# Altium integrated library Linear Technology Power Management System Supervisor, Monitor and Control.IntLib: 1611 symbols (part 17 of 100)
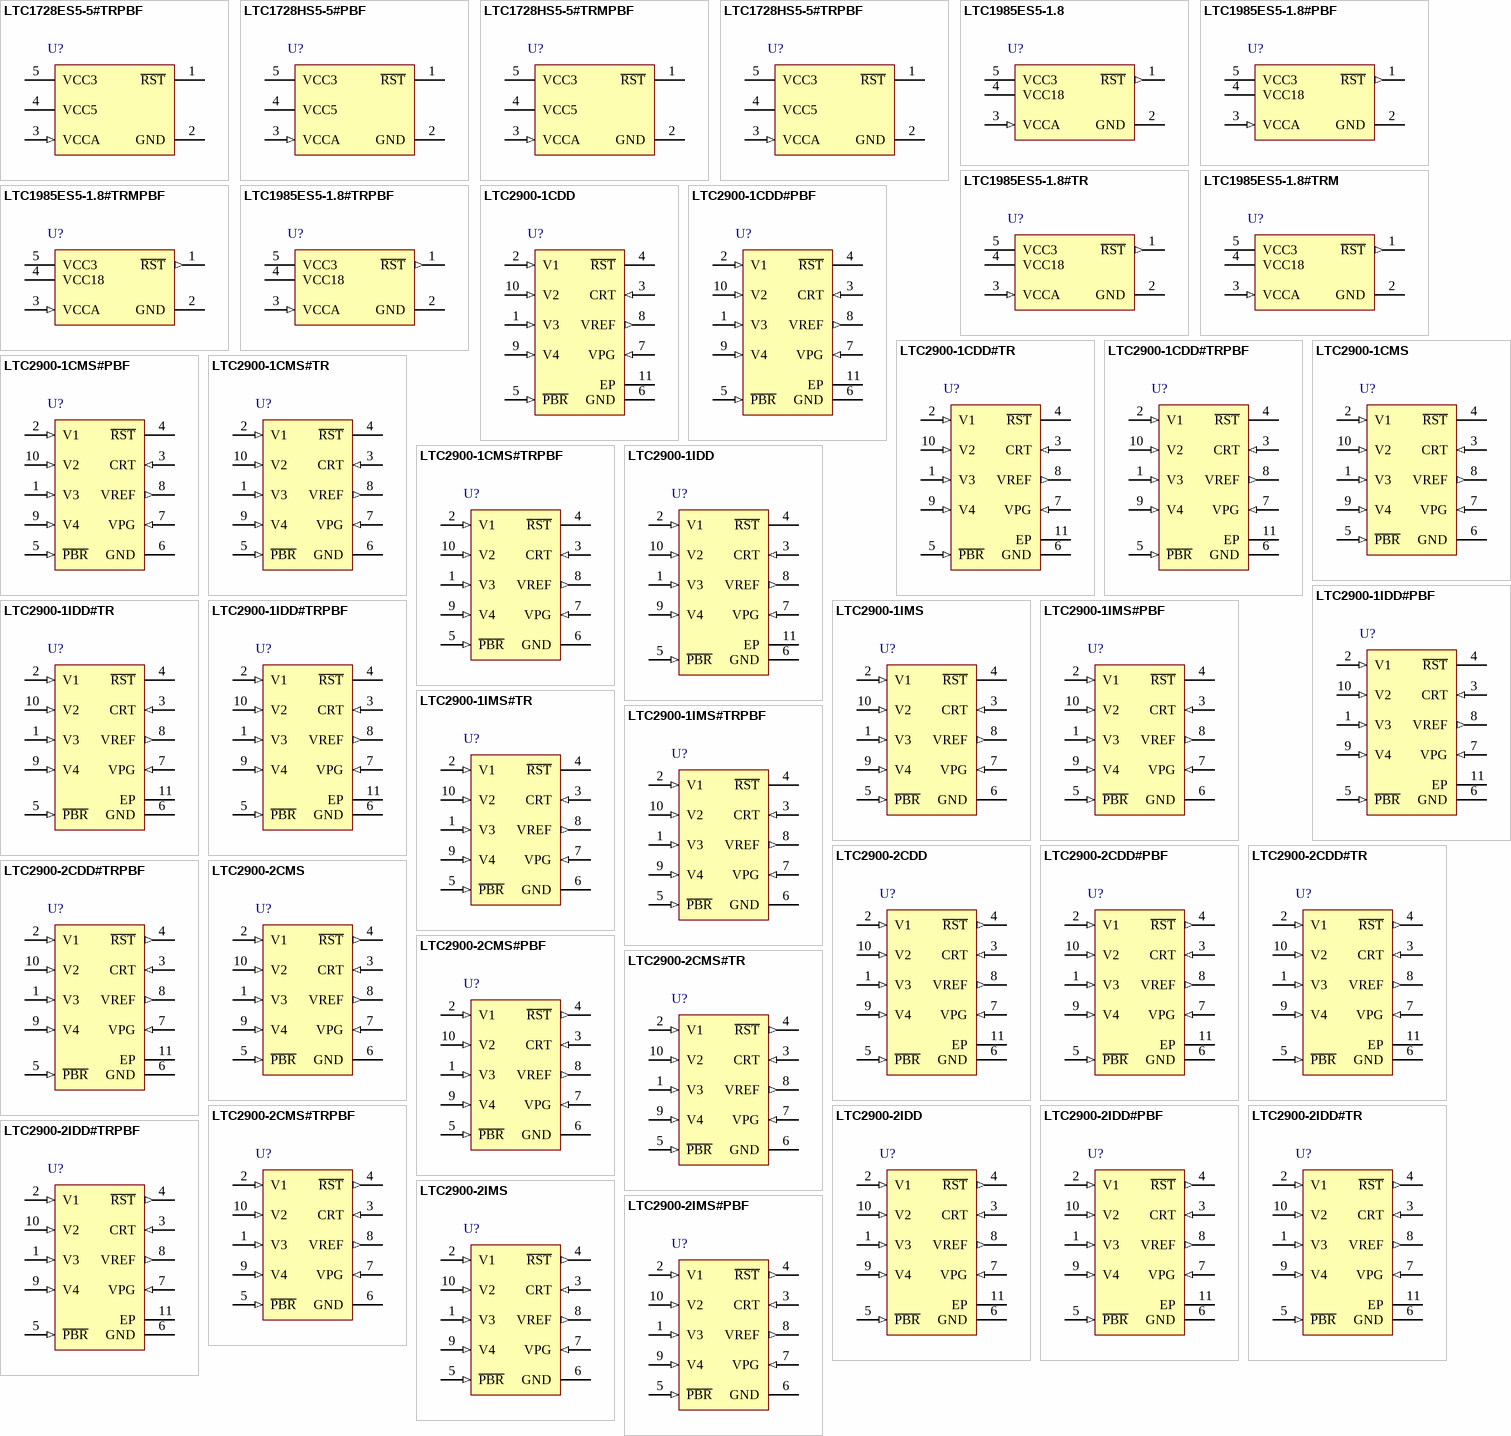
[diagram p61: symbols LTC1728ES5-5#TRPBF to LTC2900-2IMS#PBF]

## LTC2900-2IMS#PBF
designator U?
Programmable Quad Supply Monitor with Adjustable Reset Timer, 10-pin SOP (MS-10), -40 to 85 degC, Pb-Free; Manufacturer: Linear Technology; PartNumber: LTC2900-2IMS#PBF; Number of Supplies(#): 4; PackageVersion: Rev. E, 06/2010; PackageReference: MS-10; PackageDescription: 10-Pin Plastic MSOP, Body 3 x 3 mm, Pitch 0.5 mm; Supplier 1: Digi-Key; Supplier Part Number 1: LTC2900-2IMS#PBF-ND; Supplier 2: Farnell; Supplier Part Number 2: 2295400; Supplier 3: Newark; Supplier Part Number 3: 56M6569; RoHS: TRUE; Mounting Technology: Surface Mount; ComponentLink1Description: Manufacturer URL; ComponentLink1URL: http://www.linear.com/; ComponentLink2Description: Datasheet; ComponentLink2URL: http://cds.linear.com/docs/en/datasheet/2900f.pdf; ComponentLink3Description: Package Specification; ComponentLink3URL: http://cds.linear.com/docs/en/packaging/05081661_F_MS.pdf
footprint LT-MS-10_N (SOP, 10-Leads, Body 3.1x3.1mm, Pitch 0.5mm, IPC Medium Density)
footprint LT-MS-10_L (SOP, 10-Leads, Body 3.1x3.1mm, Pitch 0.5mm, IPC High Density)
footprint LT-MS-10_M (SOP, 10-Leads, Body 3.1x3.1mm, Pitch 0.5mm, IPC Low Density)
pins: 1 V3 (in) "Voltage Input 3. Select from 2.5V, 1.8V, 1.5V or ADJ. See Table 1 for details.", 2 V1 (in) "Voltage Input 1. Select from 5V or 3.3V. See Table 1 for details. The greater of (V1, V2) is also VCC for the device. Bypass this pin to ground with a 0.1uF (or greater) capacitor.", 3 CRT (in) "Reset Delay Time Programming Pin. Attach an external capacitor (CRT) to GND to set a reset delay time of 4.6ms/nF. Leaving the pin open generates a minimum delay of approximately 50us. A 47nF capacitor will generate a 216ms (See Datasheet)", 4 ~{RST} (out) "Reset Logic Output. Active low with active pull-up to V2 (LTC2900-2). Pulls low when any voltage input is below the reset threshold and held low for the programmed delay time after all voltage inputs are above threshold.", 5 ~{PBR} (in) "Manual Reset Pin. Attach a push-button switch between this pin and ground. A logic low on this pin will pull R\S\T\ low. When the P\B\R\ pin returns high, R\S\T\ will return high after the programmed reset delay assuming all (See Datasheet)", 6 GND (power) "Ground.", 7 VPG (in) "Voltage Threshold Combination Select Input. Connect to an external 1% resistive divider between VREF and GND to select 1 of 16 combinations of preset and/or +/-adjustable voltage thresholds (see Table 1). Do not add (See Datasheet)", 8 VREF (out) "Buffered Reference Voltage. A 1.210V nominal reference used for the programming voltage (VPG) and for the offset of negative adjustable applications. The buffered reference can source and sink up to 1mA. The reference can (See Datasheet)", 9 V4 (in) "Voltage Input 4. Select from 1.8V, 1.5V, ADJ or -ADJ. See Table 1 for details.", 10 V2 (in) "Voltage Input 2. Select from 3.3V, 3V or 2.5V. See Table 1 for details. The greater of (V1, V2) is also VCC for the device. Bypass this pin to ground with a 0.1uF (or greater) capacitor.R\S\T\ is actively pulled up to V2 in (See Datasheet)"

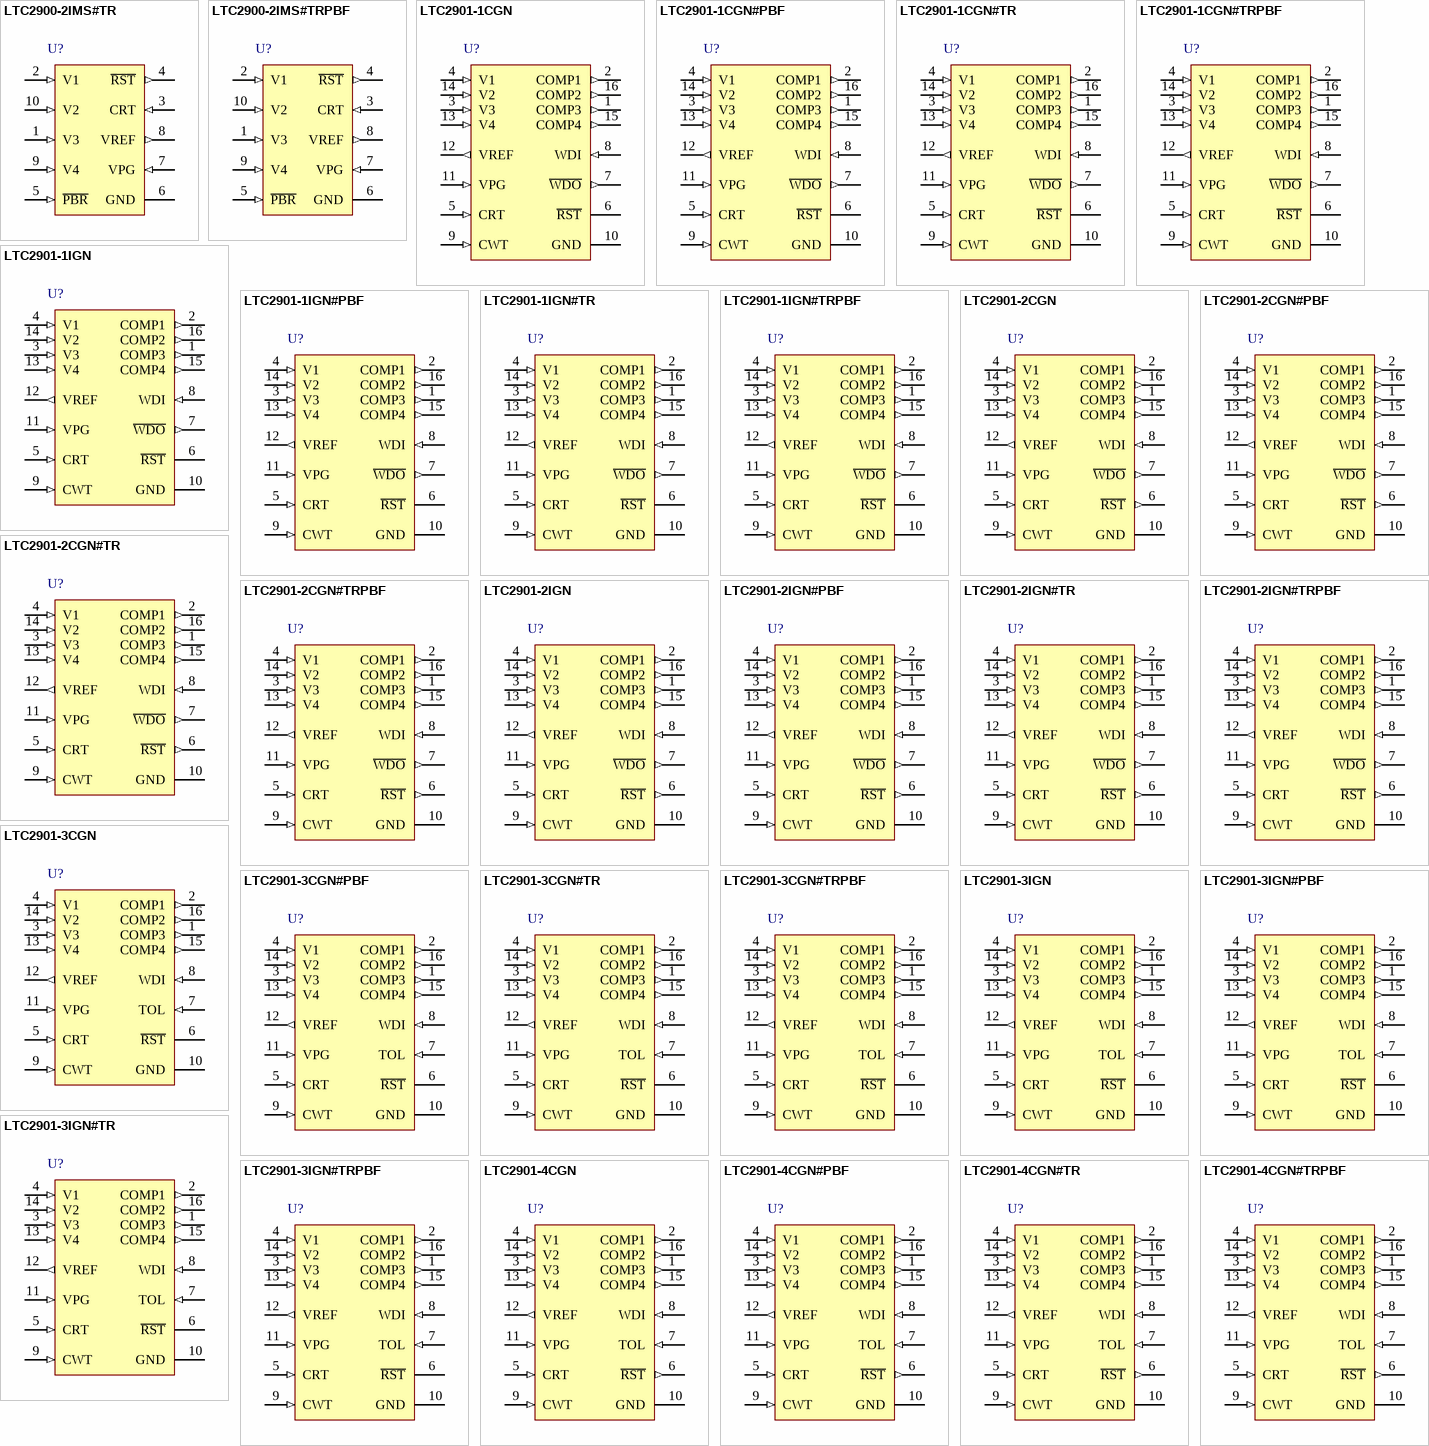
[diagram p9: symbols LTC2900-2IMS#TR to LTC2901-4CGN#TRPBF]

## LTC2900-2IMS#TR
designator U?
Programmable Quad Supply Monitor with Adjustable Reset Timer, 10-pin SOP (MS-10), -40 to 85 degC, Tape and Reel; Manufacturer: Linear Technology; PartNumber: LTC2900-2IMS#TR; Number of Supplies(#): 4; PackageVersion: Rev. E, 06/2010; PackageReference: MS-10; PackageDescription: 10-Pin Plastic MSOP, Body 3 x 3 mm, Pitch 0.5 mm; Supplier 1: Digi-Key; Supplier Part Number 1: LTC2900-2IMS#TR-ND; Packing: Tape and Reel; RoHS: FALSE; Mounting Technology: Surface Mount; ComponentLink1Description: Manufacturer URL; ComponentLink1URL: http://www.linear.com/; ComponentLink2Description: Datasheet; ComponentLink2URL: http://cds.linear.com/docs/en/datasheet/2900f.pdf; ComponentLink3Description: Package Specification; ComponentLink3URL: http://cds.linear.com/docs/en/packaging/05081661_F_MS.pdf
footprint LT-MS-10_N (SOP, 10-Leads, Body 3.1x3.1mm, Pitch 0.5mm, IPC Medium Density)
footprint LT-MS-10_L (SOP, 10-Leads, Body 3.1x3.1mm, Pitch 0.5mm, IPC High Density)
footprint LT-MS-10_M (SOP, 10-Leads, Body 3.1x3.1mm, Pitch 0.5mm, IPC Low Density)
pins: 1 V3 (in) "Voltage Input 3. Select from 2.5V, 1.8V, 1.5V or ADJ. See Table 1 for details.", 2 V1 (in) "Voltage Input 1. Select from 5V or 3.3V. See Table 1 for details. The greater of (V1, V2) is also VCC for the device. Bypass this pin to ground with a 0.1uF (or greater) capacitor.", 3 CRT (in) "Reset Delay Time Programming Pin. Attach an external capacitor (CRT) to GND to set a reset delay time of 4.6ms/nF. Leaving the pin open generates a minimum delay of approximately 50us. A 47nF capacitor will generate a 216ms (See Datasheet)", 4 ~{RST} (out) "Reset Logic Output. Active low with active pull-up to V2 (LTC2900-2). Pulls low when any voltage input is below the reset threshold and held low for the programmed delay time after all voltage inputs are above threshold.", 5 ~{PBR} (in) "Manual Reset Pin. Attach a push-button switch between this pin and ground. A logic low on this pin will pull R\S\T\ low. When the P\B\R\ pin returns high, R\S\T\ will return high after the programmed reset delay assuming all (See Datasheet)", 6 GND (power) "Ground.", 7 VPG (in) "Voltage Threshold Combination Select Input. Connect to an external 1% resistive divider between VREF and GND to select 1 of 16 combinations of preset and/or +/-adjustable voltage thresholds (see Table 1). Do not add (See Datasheet)", 8 VREF (out) "Buffered Reference Voltage. A 1.210V nominal reference used for the programming voltage (VPG) and for the offset of negative adjustable applications. The buffered reference can source and sink up to 1mA. The reference can (See Datasheet)", 9 V4 (in) "Voltage Input 4. Select from 1.8V, 1.5V, ADJ or -ADJ. See Table 1 for details.", 10 V2 (in) "Voltage Input 2. Select from 3.3V, 3V or 2.5V. See Table 1 for details. The greater of (V1, V2) is also VCC for the device. Bypass this pin to ground with a 0.1uF (or greater) capacitor.R\S\T\ is actively pulled up to V2 in (See Datasheet)"

## LTC2900-2IMS#TRPBF
designator U?
Programmable Quad Supply Monitor with Adjustable Reset Timer, 10-pin SOP (MS-10), -40 to 85 degC, Pb-Free, Tape and Reel; Manufacturer: Linear Technology; PartNumber: LTC2900-2IMS#TRPBF; Number of Supplies(#): 4; PackageVersion: Rev. E, 06/2010; PackageReference: MS-10; PackageDescription: 10-Pin Plastic MSOP, Body 3 x 3 mm, Pitch 0.5 mm; Supplier 1: Digi-Key; Supplier Part Number 1: LTC2900-2IMS#TRPBF-ND; Supplier 2: Newark; Supplier Part Number 2: 56M6571; Packing: Tape and Reel; RoHS: TRUE; Mounting Technology: Surface Mount; ComponentLink1Description: Manufacturer URL; ComponentLink1URL: http://www.linear.com/; ComponentLink2Description: Datasheet; ComponentLink2URL: http://cds.linear.com/docs/en/datasheet/2900f.pdf; ComponentLink3Description: Package Specification; ComponentLink3URL: http://cds.linear.com/docs/en/packaging/05081661_F_MS.pdf
footprint LT-MS-10_N (SOP, 10-Leads, Body 3.1x3.1mm, Pitch 0.5mm, IPC Medium Density)
footprint LT-MS-10_L (SOP, 10-Leads, Body 3.1x3.1mm, Pitch 0.5mm, IPC High Density)
footprint LT-MS-10_M (SOP, 10-Leads, Body 3.1x3.1mm, Pitch 0.5mm, IPC Low Density)
pins: 1 V3 (in) "Voltage Input 3. Select from 2.5V, 1.8V, 1.5V or ADJ. See Table 1 for details.", 2 V1 (in) "Voltage Input 1. Select from 5V or 3.3V. See Table 1 for details. The greater of (V1, V2) is also VCC for the device. Bypass this pin to ground with a 0.1uF (or greater) capacitor.", 3 CRT (in) "Reset Delay Time Programming Pin. Attach an external capacitor (CRT) to GND to set a reset delay time of 4.6ms/nF. Leaving the pin open generates a minimum delay of approximately 50us. A 47nF capacitor will generate a 216ms (See Datasheet)", 4 ~{RST} (out) "Reset Logic Output. Active low with active pull-up to V2 (LTC2900-2). Pulls low when any voltage input is below the reset threshold and held low for the programmed delay time after all voltage inputs are above threshold.", 5 ~{PBR} (in) "Manual Reset Pin. Attach a push-button switch between this pin and ground. A logic low on this pin will pull R\S\T\ low. When the P\B\R\ pin returns high, R\S\T\ will return high after the programmed reset delay assuming all (See Datasheet)", 6 GND (power) "Ground.", 7 VPG (in) "Voltage Threshold Combination Select Input. Connect to an external 1% resistive divider between VREF and GND to select 1 of 16 combinations of preset and/or +/-adjustable voltage thresholds (see Table 1). Do not add (See Datasheet)", 8 VREF (out) "Buffered Reference Voltage. A 1.210V nominal reference used for the programming voltage (VPG) and for the offset of negative adjustable applications. The buffered reference can source and sink up to 1mA. The reference can (See Datasheet)", 9 V4 (in) "Voltage Input 4. Select from 1.8V, 1.5V, ADJ or -ADJ. See Table 1 for details.", 10 V2 (in) "Voltage Input 2. Select from 3.3V, 3V or 2.5V. See Table 1 for details. The greater of (V1, V2) is also VCC for the device. Bypass this pin to ground with a 0.1uF (or greater) capacitor.R\S\T\ is actively pulled up to V2 in (See Datasheet)"

## LTC2901-1CGN
designator U?
Programmable Quad Supply Monitor with Adjustable Reset and Watchdog Timers, 16-pin SOP (GN-16), 0 to 70 degC; Manufacturer: Linear Technology; PartNumber: LTC2901-1CGN; Number of Supplies(#): 4; DatasheetVersion: Rev. B; PackageVersion: Rev. B, 03/2012; PackageReference: GN-16; PackageDescription: 16-Pin Plastic SSOP, Body 4.9 x 3.9 mm, Pitch 0.635 mm; Supplier 1: Digi-Key; Supplier Part Number 1: LTC2901-1CGN-ND; RoHS: FALSE; Mounting Technology: Surface Mount; ComponentLink1Description: Manufacturer URL; ComponentLink1URL: http://www.linear.com/; ComponentLink2Description: Datasheet; ComponentLink2URL: http://cds.linear.com/docs/en/datasheet/2901fb.pdf; ComponentLink3Description: Package Specification; ComponentLink3URL: http://cds.linear.com/docs/en/packaging/05081641_B_GN16.pdf
footprint LT-GN-16_N (SOP, 16-Leads, Body 5x4mm, Pitch 0.635mm, IPC Medium Density)
footprint LT-GN-16_L (SOP, 16-Leads, Body 5x4mm, Pitch 0.635mm, IPC High Density)
footprint LT-GN-16_M (SOP, 16-Leads, Body 5x4mm, Pitch 0.635mm, IPC Low Density)
pins: 1 COMP3 (out) "Comparator Output 3. Nondelayed, active high logic output with weak pull-up to V2. Pulls high when V3 is above reset threshold. May be pulled greater than V2 using external pull-up.", 2 COMP1 (out) "Comparator Output 1. Nondelayed, active high logic output with weak pull-up to V2. Pulls high when V1 is above reset threshold. May be pulled greater than V2 using external pull-up.", 3 V3 (in) "Voltage Input 3. Select from 2.5V, 1.8V, 1.5V or ADJ. See Table 1 for details.", 4 V1 (in) "Voltage Input 1. Select from 5V or 3.3V. See Table 1 for details. The greater of (V1, V2) is also VCC for the device. Bypass this pin to ground with a 0.1uF (or greater) capacitor.", 5 CRT (in) "Reset Delay Time Programming Pin. Attach an external capacitor (CRT) to GND to set a reset delay time of 4.6ms/nF. Leaving the pin open generates a minimum delay of approximately 50us. A 47nF capacitor will generate a 216ms (See Datasheet)", 6 ~{RST} (oc) "Reset Logic Output. Active low with weak pull-up to V2 (LTC2901-1/LTC2901-3) or active pull-up to V2 (LTC2901-2/LTC2901-4). Pulls low when any voltage input is below the reset threshold and held low for the programmed delay (See Datasheet)", 7 ~{WDO} (out) "LTC2901-1/LTC2901-2 Watchdog Output. Active low logic output with weak pull-up to V2. May be pulled greater than V2 using external pull-up. The watchdog output pulls low if the watchdog timer is allowed to time out and (See Datasheet)", 8 WDI (in) "Watchdog Input. A logic input whose rising or falling edge must occur on this pin (while R\S\T\ is high) within the selected watchdog time-out period, prohibiting a high-to-low transition on the W\D\O\ pin (LTC2901-1/ (See Datasheet)", 9 CWT (in) "Watchdog Time-Out Programming Pin. Attach a capacitor (CWT) between CWT and GND to set a watchdog time-out period of 20ms/nF. Leaving the pin open generates a minimum time-out of approximately 200us. A 47nF capacitor will (See Datasheet)", 10 GND (power) "Ground.", 11 VPG (in) "Voltage Threshold Combination Select Input. Connect to an external 1% resistive divider between VREF and GND to select 1 of 16 combinations of preset and/ or +/-adjustable voltage thresholds (see Table 1). Do not add (See Datasheet)", 12 VREF (out) "Buffered Reference Voltage. A 1.210V nominal reference used for programming voltage (VPG) and for the offset of negative adjustable applications. The buffered reference can source and sink up to 1mA. The reference can drive (See Datasheet)", 13 V4 (in) "Voltage Input 4. Select from 1.8V, 1.5V, ADJ or - ADJ. See Table 1 for details.", 14 V2 (in) "Voltage Input 2. Select from 3.3V, 3V or 2.5V. See Table 1 for details. The greater of (V1, V2) is also VCC for device. Bypass this pin to ground with a 0.1uF (or greater) capacitor. All logic outputs (COMP1, COMP2, COMP3, (See Datasheet)", 15 COMP4 (out) "Comparator Output 4. Nondelayed, active high logic output with weak pull-up to V2. Pulls high when V4 is above reset threshold. May be pulled greater than V2 using external pull-up.", 16 COMP2 (out) "Comparator Output 2. Nondelayed, active high logic output with weak pull-up to V2. Pulls high when V2 is above reset threshold. May be pulled greater than V2 using external pull-up."

## LTC2901-1CGN#PBF
designator U?
Programmable Quad Supply Monitor with Adjustable Reset and Watchdog Timers, 16-pin SOP (GN-16), 0 to 70 degC, Pb-Free; Manufacturer: Linear Technology; PartNumber: LTC2901-1CGN#PBF; Number of Supplies(#): 4; DatasheetVersion: Rev. B; PackageVersion: Rev. B, 03/2012; PackageReference: GN-16; PackageDescription: 16-Pin Plastic SSOP, Body 4.9 x 3.9 mm, Pitch 0.635 mm; Supplier 1: Digi-Key; Supplier Part Number 1: LTC2901-1CGN#PBF-ND; Supplier 2: Farnell; Supplier Part Number 2: 2295401; Supplier 3: Newark; Supplier Part Number 3: 56M6572; RoHS: TRUE; Mounting Technology: Surface Mount; ComponentLink1Description: Manufacturer URL; ComponentLink1URL: http://www.linear.com/; ComponentLink2Description: Datasheet; ComponentLink2URL: http://cds.linear.com/docs/en/datasheet/2901fb.pdf; ComponentLink3Description: Package Specification; ComponentLink3URL: http://cds.linear.com/docs/en/packaging/05081641_B_GN16.pdf
footprint LT-GN-16_N (SOP, 16-Leads, Body 5x4mm, Pitch 0.635mm, IPC Medium Density)
footprint LT-GN-16_L (SOP, 16-Leads, Body 5x4mm, Pitch 0.635mm, IPC High Density)
footprint LT-GN-16_M (SOP, 16-Leads, Body 5x4mm, Pitch 0.635mm, IPC Low Density)
pins: 1 COMP3 (out) "Comparator Output 3. Nondelayed, active high logic output with weak pull-up to V2. Pulls high when V3 is above reset threshold. May be pulled greater than V2 using external pull-up.", 2 COMP1 (out) "Comparator Output 1. Nondelayed, active high logic output with weak pull-up to V2. Pulls high when V1 is above reset threshold. May be pulled greater than V2 using external pull-up.", 3 V3 (in) "Voltage Input 3. Select from 2.5V, 1.8V, 1.5V or ADJ. See Table 1 for details.", 4 V1 (in) "Voltage Input 1. Select from 5V or 3.3V. See Table 1 for details. The greater of (V1, V2) is also VCC for the device. Bypass this pin to ground with a 0.1uF (or greater) capacitor.", 5 CRT (in) "Reset Delay Time Programming Pin. Attach an external capacitor (CRT) to GND to set a reset delay time of 4.6ms/nF. Leaving the pin open generates a minimum delay of approximately 50us. A 47nF capacitor will generate a 216ms (See Datasheet)", 6 ~{RST} (oc) "Reset Logic Output. Active low with weak pull-up to V2 (LTC2901-1/LTC2901-3) or active pull-up to V2 (LTC2901-2/LTC2901-4). Pulls low when any voltage input is below the reset threshold and held low for the programmed delay (See Datasheet)", 7 ~{WDO} (out) "LTC2901-1/LTC2901-2 Watchdog Output. Active low logic output with weak pull-up to V2. May be pulled greater than V2 using external pull-up. The watchdog output pulls low if the watchdog timer is allowed to time out and (See Datasheet)", 8 WDI (in) "Watchdog Input. A logic input whose rising or falling edge must occur on this pin (while R\S\T\ is high) within the selected watchdog time-out period, prohibiting a high-to-low transition on the W\D\O\ pin (LTC2901-1/ (See Datasheet)", 9 CWT (in) "Watchdog Time-Out Programming Pin. Attach a capacitor (CWT) between CWT and GND to set a watchdog time-out period of 20ms/nF. Leaving the pin open generates a minimum time-out of approximately 200us. A 47nF capacitor will (See Datasheet)", 10 GND (power) "Ground.", 11 VPG (in) "Voltage Threshold Combination Select Input. Connect to an external 1% resistive divider between VREF and GND to select 1 of 16 combinations of preset and/ or +/-adjustable voltage thresholds (see Table 1). Do not add (See Datasheet)", 12 VREF (out) "Buffered Reference Voltage. A 1.210V nominal reference used for programming voltage (VPG) and for the offset of negative adjustable applications. The buffered reference can source and sink up to 1mA. The reference can drive (See Datasheet)", 13 V4 (in) "Voltage Input 4. Select from 1.8V, 1.5V, ADJ or - ADJ. See Table 1 for details.", 14 V2 (in) "Voltage Input 2. Select from 3.3V, 3V or 2.5V. See Table 1 for details. The greater of (V1, V2) is also VCC for device. Bypass this pin to ground with a 0.1uF (or greater) capacitor. All logic outputs (COMP1, COMP2, COMP3, (See Datasheet)", 15 COMP4 (out) "Comparator Output 4. Nondelayed, active high logic output with weak pull-up to V2. Pulls high when V4 is above reset threshold. May be pulled greater than V2 using external pull-up.", 16 COMP2 (out) "Comparator Output 2. Nondelayed, active high logic output with weak pull-up to V2. Pulls high when V2 is above reset threshold. May be pulled greater than V2 using external pull-up."

## LTC2901-1CGN#TR
designator U?
Programmable Quad Supply Monitor with Adjustable Reset and Watchdog Timers, 16-pin SOP (GN-16), 0 to 70 degC, Tape and Reel; Manufacturer: Linear Technology; PartNumber: LTC2901-1CGN#TR; Number of Supplies(#): 4; DatasheetVersion: Rev. B; PackageVersion: Rev. B, 03/2012; PackageReference: GN-16; PackageDescription: 16-Pin Plastic SSOP, Body 4.9 x 3.9 mm, Pitch 0.635 mm; Supplier 1: Digi-Key; Supplier Part Number 1: LTC2901-1CGN#TR-ND; Packing: Tape and Reel; RoHS: FALSE; Mounting Technology: Surface Mount; ComponentLink1Description: Manufacturer URL; ComponentLink1URL: http://www.linear.com/; ComponentLink2Description: Datasheet; ComponentLink2URL: http://cds.linear.com/docs/en/datasheet/2901fb.pdf; ComponentLink3Description: Package Specification; ComponentLink3URL: http://cds.linear.com/docs/en/packaging/05081641_B_GN16.pdf
footprint LT-GN-16_N (SOP, 16-Leads, Body 5x4mm, Pitch 0.635mm, IPC Medium Density)
footprint LT-GN-16_L (SOP, 16-Leads, Body 5x4mm, Pitch 0.635mm, IPC High Density)
footprint LT-GN-16_M (SOP, 16-Leads, Body 5x4mm, Pitch 0.635mm, IPC Low Density)
pins: 1 COMP3 (out) "Comparator Output 3. Nondelayed, active high logic output with weak pull-up to V2. Pulls high when V3 is above reset threshold. May be pulled greater than V2 using external pull-up.", 2 COMP1 (out) "Comparator Output 1. Nondelayed, active high logic output with weak pull-up to V2. Pulls high when V1 is above reset threshold. May be pulled greater than V2 using external pull-up.", 3 V3 (in) "Voltage Input 3. Select from 2.5V, 1.8V, 1.5V or ADJ. See Table 1 for details.", 4 V1 (in) "Voltage Input 1. Select from 5V or 3.3V. See Table 1 for details. The greater of (V1, V2) is also VCC for the device. Bypass this pin to ground with a 0.1uF (or greater) capacitor.", 5 CRT (in) "Reset Delay Time Programming Pin. Attach an external capacitor (CRT) to GND to set a reset delay time of 4.6ms/nF. Leaving the pin open generates a minimum delay of approximately 50us. A 47nF capacitor will generate a 216ms (See Datasheet)", 6 ~{RST} (oc) "Reset Logic Output. Active low with weak pull-up to V2 (LTC2901-1/LTC2901-3) or active pull-up to V2 (LTC2901-2/LTC2901-4). Pulls low when any voltage input is below the reset threshold and held low for the programmed delay (See Datasheet)", 7 ~{WDO} (out) "LTC2901-1/LTC2901-2 Watchdog Output. Active low logic output with weak pull-up to V2. May be pulled greater than V2 using external pull-up. The watchdog output pulls low if the watchdog timer is allowed to time out and (See Datasheet)", 8 WDI (in) "Watchdog Input. A logic input whose rising or falling edge must occur on this pin (while R\S\T\ is high) within the selected watchdog time-out period, prohibiting a high-to-low transition on the W\D\O\ pin (LTC2901-1/ (See Datasheet)", 9 CWT (in) "Watchdog Time-Out Programming Pin. Attach a capacitor (CWT) between CWT and GND to set a watchdog time-out period of 20ms/nF. Leaving the pin open generates a minimum time-out of approximately 200us. A 47nF capacitor will (See Datasheet)", 10 GND (power) "Ground.", 11 VPG (in) "Voltage Threshold Combination Select Input. Connect to an external 1% resistive divider between VREF and GND to select 1 of 16 combinations of preset and/ or +/-adjustable voltage thresholds (see Table 1). Do not add (See Datasheet)", 12 VREF (out) "Buffered Reference Voltage. A 1.210V nominal reference used for programming voltage (VPG) and for the offset of negative adjustable applications. The buffered reference can source and sink up to 1mA. The reference can drive (See Datasheet)", 13 V4 (in) "Voltage Input 4. Select from 1.8V, 1.5V, ADJ or - ADJ. See Table 1 for details.", 14 V2 (in) "Voltage Input 2. Select from 3.3V, 3V or 2.5V. See Table 1 for details. The greater of (V1, V2) is also VCC for device. Bypass this pin to ground with a 0.1uF (or greater) capacitor. All logic outputs (COMP1, COMP2, COMP3, (See Datasheet)", 15 COMP4 (out) "Comparator Output 4. Nondelayed, active high logic output with weak pull-up to V2. Pulls high when V4 is above reset threshold. May be pulled greater than V2 using external pull-up.", 16 COMP2 (out) "Comparator Output 2. Nondelayed, active high logic output with weak pull-up to V2. Pulls high when V2 is above reset threshold. May be pulled greater than V2 using external pull-up."

## LTC2901-1CGN#TRPBF
designator U?
Programmable Quad Supply Monitor with Adjustable Reset and Watchdog Timers, 16-pin SOP (GN-16), 0 to 70 degC, Pb-Free, Tape and Reel; Manufacturer: Linear Technology; PartNumber: LTC2901-1CGN#TRPBF; Number of Supplies(#): 4; DatasheetVersion: Rev. B; PackageVersion: Rev. B, 03/2012; PackageReference: GN-16; PackageDescription: 16-Pin Plastic SSOP, Body 4.9 x 3.9 mm, Pitch 0.635 mm; Supplier 1: Digi-Key; Supplier Part Number 1: LTC2901-1CGN#TRPBF-ND; Supplier 2: Newark; Supplier Part Number 2: 56M6574; Packing: Tape and Reel; RoHS: TRUE; Mounting Technology: Surface Mount; ComponentLink1Description: Manufacturer URL; ComponentLink1URL: http://www.linear.com/; ComponentLink2Description: Datasheet; ComponentLink2URL: http://cds.linear.com/docs/en/datasheet/2901fb.pdf; ComponentLink3Description: Package Specification; ComponentLink3URL: http://cds.linear.com/docs/en/packaging/05081641_B_GN16.pdf
footprint LT-GN-16_N (SOP, 16-Leads, Body 5x4mm, Pitch 0.635mm, IPC Medium Density)
footprint LT-GN-16_L (SOP, 16-Leads, Body 5x4mm, Pitch 0.635mm, IPC High Density)
footprint LT-GN-16_M (SOP, 16-Leads, Body 5x4mm, Pitch 0.635mm, IPC Low Density)
pins: 1 COMP3 (out) "Comparator Output 3. Nondelayed, active high logic output with weak pull-up to V2. Pulls high when V3 is above reset threshold. May be pulled greater than V2 using external pull-up.", 2 COMP1 (out) "Comparator Output 1. Nondelayed, active high logic output with weak pull-up to V2. Pulls high when V1 is above reset threshold. May be pulled greater than V2 using external pull-up.", 3 V3 (in) "Voltage Input 3. Select from 2.5V, 1.8V, 1.5V or ADJ. See Table 1 for details.", 4 V1 (in) "Voltage Input 1. Select from 5V or 3.3V. See Table 1 for details. The greater of (V1, V2) is also VCC for the device. Bypass this pin to ground with a 0.1uF (or greater) capacitor.", 5 CRT (in) "Reset Delay Time Programming Pin. Attach an external capacitor (CRT) to GND to set a reset delay time of 4.6ms/nF. Leaving the pin open generates a minimum delay of approximately 50us. A 47nF capacitor will generate a 216ms (See Datasheet)", 6 ~{RST} (oc) "Reset Logic Output. Active low with weak pull-up to V2 (LTC2901-1/LTC2901-3) or active pull-up to V2 (LTC2901-2/LTC2901-4). Pulls low when any voltage input is below the reset threshold and held low for the programmed delay (See Datasheet)", 7 ~{WDO} (out) "LTC2901-1/LTC2901-2 Watchdog Output. Active low logic output with weak pull-up to V2. May be pulled greater than V2 using external pull-up. The watchdog output pulls low if the watchdog timer is allowed to time out and (See Datasheet)", 8 WDI (in) "Watchdog Input. A logic input whose rising or falling edge must occur on this pin (while R\S\T\ is high) within the selected watchdog time-out period, prohibiting a high-to-low transition on the W\D\O\ pin (LTC2901-1/ (See Datasheet)", 9 CWT (in) "Watchdog Time-Out Programming Pin. Attach a capacitor (CWT) between CWT and GND to set a watchdog time-out period of 20ms/nF. Leaving the pin open generates a minimum time-out of approximately 200us. A 47nF capacitor will (See Datasheet)", 10 GND (power) "Ground.", 11 VPG (in) "Voltage Threshold Combination Select Input. Connect to an external 1% resistive divider between VREF and GND to select 1 of 16 combinations of preset and/ or +/-adjustable voltage thresholds (see Table 1). Do not add (See Datasheet)", 12 VREF (out) "Buffered Reference Voltage. A 1.210V nominal reference used for programming voltage (VPG) and for the offset of negative adjustable applications. The buffered reference can source and sink up to 1mA. The reference can drive (See Datasheet)", 13 V4 (in) "Voltage Input 4. Select from 1.8V, 1.5V, ADJ or - ADJ. See Table 1 for details.", 14 V2 (in) "Voltage Input 2. Select from 3.3V, 3V or 2.5V. See Table 1 for details. The greater of (V1, V2) is also VCC for device. Bypass this pin to ground with a 0.1uF (or greater) capacitor. All logic outputs (COMP1, COMP2, COMP3, (See Datasheet)", 15 COMP4 (out) "Comparator Output 4. Nondelayed, active high logic output with weak pull-up to V2. Pulls high when V4 is above reset threshold. May be pulled greater than V2 using external pull-up.", 16 COMP2 (out) "Comparator Output 2. Nondelayed, active high logic output with weak pull-up to V2. Pulls high when V2 is above reset threshold. May be pulled greater than V2 using external pull-up."

## LTC2901-1IGN
designator U?
Programmable Quad Supply Monitor with Adjustable Reset and Watchdog Timers, 16-pin SOP (GN-16), -40 to 85 degC; Manufacturer: Linear Technology; PartNumber: LTC2901-1IGN; Number of Supplies(#): 4; DatasheetVersion: Rev. B; PackageVersion: Rev. B, 03/2012; PackageReference: GN-16; PackageDescription: 16-Pin Plastic SSOP, Body 4.9 x 3.9 mm, Pitch 0.635 mm; Supplier 1: Digi-Key; Supplier Part Number 1: LTC2901-1IGN-ND; RoHS: FALSE; Mounting Technology: Surface Mount; ComponentLink1Description: Manufacturer URL; ComponentLink1URL: http://www.linear.com/; ComponentLink2Description: Datasheet; ComponentLink2URL: http://cds.linear.com/docs/en/datasheet/2901fb.pdf; ComponentLink3Description: Package Specification; ComponentLink3URL: http://cds.linear.com/docs/en/packaging/05081641_B_GN16.pdf
footprint LT-GN-16_N (SOP, 16-Leads, Body 5x4mm, Pitch 0.635mm, IPC Medium Density)
footprint LT-GN-16_L (SOP, 16-Leads, Body 5x4mm, Pitch 0.635mm, IPC High Density)
footprint LT-GN-16_M (SOP, 16-Leads, Body 5x4mm, Pitch 0.635mm, IPC Low Density)
pins: 1 COMP3 (out) "Comparator Output 3. Nondelayed, active high logic output with weak pull-up to V2. Pulls high when V3 is above reset threshold. May be pulled greater than V2 using external pull-up.", 2 COMP1 (out) "Comparator Output 1. Nondelayed, active high logic output with weak pull-up to V2. Pulls high when V1 is above reset threshold. May be pulled greater than V2 using external pull-up.", 3 V3 (in) "Voltage Input 3. Select from 2.5V, 1.8V, 1.5V or ADJ. See Table 1 for details.", 4 V1 (in) "Voltage Input 1. Select from 5V or 3.3V. See Table 1 for details. The greater of (V1, V2) is also VCC for the device. Bypass this pin to ground with a 0.1uF (or greater) capacitor.", 5 CRT (in) "Reset Delay Time Programming Pin. Attach an external capacitor (CRT) to GND to set a reset delay time of 4.6ms/nF. Leaving the pin open generates a minimum delay of approximately 50us. A 47nF capacitor will generate a 216ms (See Datasheet)", 6 ~{RST} (oc) "Reset Logic Output. Active low with weak pull-up to V2 (LTC2901-1/LTC2901-3) or active pull-up to V2 (LTC2901-2/LTC2901-4). Pulls low when any voltage input is below the reset threshold and held low for the programmed delay (See Datasheet)", 7 ~{WDO} (out) "LTC2901-1/LTC2901-2 Watchdog Output. Active low logic output with weak pull-up to V2. May be pulled greater than V2 using external pull-up. The watchdog output pulls low if the watchdog timer is allowed to time out and (See Datasheet)", 8 WDI (in) "Watchdog Input. A logic input whose rising or falling edge must occur on this pin (while R\S\T\ is high) within the selected watchdog time-out period, prohibiting a high-to-low transition on the W\D\O\ pin (LTC2901-1/ (See Datasheet)", 9 CWT (in) "Watchdog Time-Out Programming Pin. Attach a capacitor (CWT) between CWT and GND to set a watchdog time-out period of 20ms/nF. Leaving the pin open generates a minimum time-out of approximately 200us. A 47nF capacitor will (See Datasheet)", 10 GND (power) "Ground.", 11 VPG (in) "Voltage Threshold Combination Select Input. Connect to an external 1% resistive divider between VREF and GND to select 1 of 16 combinations of preset and/ or +/-adjustable voltage thresholds (see Table 1). Do not add (See Datasheet)", 12 VREF (out) "Buffered Reference Voltage. A 1.210V nominal reference used for programming voltage (VPG) and for the offset of negative adjustable applications. The buffered reference can source and sink up to 1mA. The reference can drive (See Datasheet)", 13 V4 (in) "Voltage Input 4. Select from 1.8V, 1.5V, ADJ or - ADJ. See Table 1 for details.", 14 V2 (in) "Voltage Input 2. Select from 3.3V, 3V or 2.5V. See Table 1 for details. The greater of (V1, V2) is also VCC for device. Bypass this pin to ground with a 0.1uF (or greater) capacitor. All logic outputs (COMP1, COMP2, COMP3, (See Datasheet)", 15 COMP4 (out) "Comparator Output 4. Nondelayed, active high logic output with weak pull-up to V2. Pulls high when V4 is above reset threshold. May be pulled greater than V2 using external pull-up.", 16 COMP2 (out) "Comparator Output 2. Nondelayed, active high logic output with weak pull-up to V2. Pulls high when V2 is above reset threshold. May be pulled greater than V2 using external pull-up."

## LTC2901-1IGN#PBF
designator U?
Programmable Quad Supply Monitor with Adjustable Reset and Watchdog Timers, 16-pin SOP (GN-16), -40 to 85 degC, Pb-Free; Manufacturer: Linear Technology; PartNumber: LTC2901-1IGN#PBF; Number of Supplies(#): 4; DatasheetVersion: Rev. B; PackageVersion: Rev. B, 03/2012; PackageReference: GN-16; PackageDescription: 16-Pin Plastic SSOP, Body 4.9 x 3.9 mm, Pitch 0.635 mm; Supplier 1: Digi-Key; Supplier Part Number 1: LTC2901-1IGN#PBF-ND; Supplier 2: Farnell; Supplier Part Number 2: 2295402; Supplier 3: Newark; Supplier Part Number 3: 56M6576; RoHS: TRUE; Mounting Technology: Surface Mount; ComponentLink1Description: Manufacturer URL; ComponentLink1URL: http://www.linear.com/; ComponentLink2Description: Datasheet; ComponentLink2URL: http://cds.linear.com/docs/en/datasheet/2901fb.pdf; ComponentLink3Description: Package Specification; ComponentLink3URL: http://cds.linear.com/docs/en/packaging/05081641_B_GN16.pdf
footprint LT-GN-16_N (SOP, 16-Leads, Body 5x4mm, Pitch 0.635mm, IPC Medium Density)
footprint LT-GN-16_L (SOP, 16-Leads, Body 5x4mm, Pitch 0.635mm, IPC High Density)
footprint LT-GN-16_M (SOP, 16-Leads, Body 5x4mm, Pitch 0.635mm, IPC Low Density)
pins: 1 COMP3 (out) "Comparator Output 3. Nondelayed, active high logic output with weak pull-up to V2. Pulls high when V3 is above reset threshold. May be pulled greater than V2 using external pull-up.", 2 COMP1 (out) "Comparator Output 1. Nondelayed, active high logic output with weak pull-up to V2. Pulls high when V1 is above reset threshold. May be pulled greater than V2 using external pull-up.", 3 V3 (in) "Voltage Input 3. Select from 2.5V, 1.8V, 1.5V or ADJ. See Table 1 for details.", 4 V1 (in) "Voltage Input 1. Select from 5V or 3.3V. See Table 1 for details. The greater of (V1, V2) is also VCC for the device. Bypass this pin to ground with a 0.1uF (or greater) capacitor.", 5 CRT (in) "Reset Delay Time Programming Pin. Attach an external capacitor (CRT) to GND to set a reset delay time of 4.6ms/nF. Leaving the pin open generates a minimum delay of approximately 50us. A 47nF capacitor will generate a 216ms (See Datasheet)", 6 ~{RST} (oc) "Reset Logic Output. Active low with weak pull-up to V2 (LTC2901-1/LTC2901-3) or active pull-up to V2 (LTC2901-2/LTC2901-4). Pulls low when any voltage input is below the reset threshold and held low for the programmed delay (See Datasheet)", 7 ~{WDO} (out) "LTC2901-1/LTC2901-2 Watchdog Output. Active low logic output with weak pull-up to V2. May be pulled greater than V2 using external pull-up. The watchdog output pulls low if the watchdog timer is allowed to time out and (See Datasheet)", 8 WDI (in) "Watchdog Input. A logic input whose rising or falling edge must occur on this pin (while R\S\T\ is high) within the selected watchdog time-out period, prohibiting a high-to-low transition on the W\D\O\ pin (LTC2901-1/ (See Datasheet)", 9 CWT (in) "Watchdog Time-Out Programming Pin. Attach a capacitor (CWT) between CWT and GND to set a watchdog time-out period of 20ms/nF. Leaving the pin open generates a minimum time-out of approximately 200us. A 47nF capacitor will (See Datasheet)", 10 GND (power) "Ground.", 11 VPG (in) "Voltage Threshold Combination Select Input. Connect to an external 1% resistive divider between VREF and GND to select 1 of 16 combinations of preset and/ or +/-adjustable voltage thresholds (see Table 1). Do not add (See Datasheet)", 12 VREF (out) "Buffered Reference Voltage. A 1.210V nominal reference used for programming voltage (VPG) and for the offset of negative adjustable applications. The buffered reference can source and sink up to 1mA. The reference can drive (See Datasheet)", 13 V4 (in) "Voltage Input 4. Select from 1.8V, 1.5V, ADJ or - ADJ. See Table 1 for details.", 14 V2 (in) "Voltage Input 2. Select from 3.3V, 3V or 2.5V. See Table 1 for details. The greater of (V1, V2) is also VCC for device. Bypass this pin to ground with a 0.1uF (or greater) capacitor. All logic outputs (COMP1, COMP2, COMP3, (See Datasheet)", 15 COMP4 (out) "Comparator Output 4. Nondelayed, active high logic output with weak pull-up to V2. Pulls high when V4 is above reset threshold. May be pulled greater than V2 using external pull-up.", 16 COMP2 (out) "Comparator Output 2. Nondelayed, active high logic output with weak pull-up to V2. Pulls high when V2 is above reset threshold. May be pulled greater than V2 using external pull-up."

## LTC2901-1IGN#TR
designator U?
Programmable Quad Supply Monitor with Adjustable Reset and Watchdog Timers, 16-pin SOP (GN-16), -40 to 85 degC, Tape and Reel; Manufacturer: Linear Technology; PartNumber: LTC2901-1IGN#TR; Number of Supplies(#): 4; DatasheetVersion: Rev. B; PackageVersion: Rev. B, 03/2012; PackageReference: GN-16; PackageDescription: 16-Pin Plastic SSOP, Body 4.9 x 3.9 mm, Pitch 0.635 mm; Supplier 1: Digi-Key; Supplier Part Number 1: LTC2901-1IGN#TR-ND; Packing: Tape and Reel; RoHS: FALSE; Mounting Technology: Surface Mount; ComponentLink1Description: Manufacturer URL; ComponentLink1URL: http://www.linear.com/; ComponentLink2Description: Datasheet; ComponentLink2URL: http://cds.linear.com/docs/en/datasheet/2901fb.pdf; ComponentLink3Description: Package Specification; ComponentLink3URL: http://cds.linear.com/docs/en/packaging/05081641_B_GN16.pdf
footprint LT-GN-16_N (SOP, 16-Leads, Body 5x4mm, Pitch 0.635mm, IPC Medium Density)
footprint LT-GN-16_L (SOP, 16-Leads, Body 5x4mm, Pitch 0.635mm, IPC High Density)
footprint LT-GN-16_M (SOP, 16-Leads, Body 5x4mm, Pitch 0.635mm, IPC Low Density)
pins: 1 COMP3 (out) "Comparator Output 3. Nondelayed, active high logic output with weak pull-up to V2. Pulls high when V3 is above reset threshold. May be pulled greater than V2 using external pull-up.", 2 COMP1 (out) "Comparator Output 1. Nondelayed, active high logic output with weak pull-up to V2. Pulls high when V1 is above reset threshold. May be pulled greater than V2 using external pull-up.", 3 V3 (in) "Voltage Input 3. Select from 2.5V, 1.8V, 1.5V or ADJ. See Table 1 for details.", 4 V1 (in) "Voltage Input 1. Select from 5V or 3.3V. See Table 1 for details. The greater of (V1, V2) is also VCC for the device. Bypass this pin to ground with a 0.1uF (or greater) capacitor.", 5 CRT (in) "Reset Delay Time Programming Pin. Attach an external capacitor (CRT) to GND to set a reset delay time of 4.6ms/nF. Leaving the pin open generates a minimum delay of approximately 50us. A 47nF capacitor will generate a 216ms (See Datasheet)", 6 ~{RST} (oc) "Reset Logic Output. Active low with weak pull-up to V2 (LTC2901-1/LTC2901-3) or active pull-up to V2 (LTC2901-2/LTC2901-4). Pulls low when any voltage input is below the reset threshold and held low for the programmed delay (See Datasheet)", 7 ~{WDO} (out) "LTC2901-1/LTC2901-2 Watchdog Output. Active low logic output with weak pull-up to V2. May be pulled greater than V2 using external pull-up. The watchdog output pulls low if the watchdog timer is allowed to time out and (See Datasheet)", 8 WDI (in) "Watchdog Input. A logic input whose rising or falling edge must occur on this pin (while R\S\T\ is high) within the selected watchdog time-out period, prohibiting a high-to-low transition on the W\D\O\ pin (LTC2901-1/ (See Datasheet)", 9 CWT (in) "Watchdog Time-Out Programming Pin. Attach a capacitor (CWT) between CWT and GND to set a watchdog time-out period of 20ms/nF. Leaving the pin open generates a minimum time-out of approximately 200us. A 47nF capacitor will (See Datasheet)", 10 GND (power) "Ground.", 11 VPG (in) "Voltage Threshold Combination Select Input. Connect to an external 1% resistive divider between VREF and GND to select 1 of 16 combinations of preset and/ or +/-adjustable voltage thresholds (see Table 1). Do not add (See Datasheet)", 12 VREF (out) "Buffered Reference Voltage. A 1.210V nominal reference used for programming voltage (VPG) and for the offset of negative adjustable applications. The buffered reference can source and sink up to 1mA. The reference can drive (See Datasheet)", 13 V4 (in) "Voltage Input 4. Select from 1.8V, 1.5V, ADJ or - ADJ. See Table 1 for details.", 14 V2 (in) "Voltage Input 2. Select from 3.3V, 3V or 2.5V. See Table 1 for details. The greater of (V1, V2) is also VCC for device. Bypass this pin to ground with a 0.1uF (or greater) capacitor. All logic outputs (COMP1, COMP2, COMP3, (See Datasheet)", 15 COMP4 (out) "Comparator Output 4. Nondelayed, active high logic output with weak pull-up to V2. Pulls high when V4 is above reset threshold. May be pulled greater than V2 using external pull-up.", 16 COMP2 (out) "Comparator Output 2. Nondelayed, active high logic output with weak pull-up to V2. Pulls high when V2 is above reset threshold. May be pulled greater than V2 using external pull-up."

## LTC2901-1IGN#TRPBF
designator U?
Programmable Quad Supply Monitor with Adjustable Reset and Watchdog Timers, 16-pin SOP (GN-16), -40 to 85 degC, Pb-Free, Tape and Reel; Manufacturer: Linear Technology; PartNumber: LTC2901-1IGN#TRPBF; Number of Supplies(#): 4; DatasheetVersion: Rev. B; PackageVersion: Rev. B, 03/2012; PackageReference: GN-16; PackageDescription: 16-Pin Plastic SSOP, Body 4.9 x 3.9 mm, Pitch 0.635 mm; Supplier 1: Digi-Key; Supplier Part Number 1: LTC2901-1IGN#TRPBF-ND; Packing: Tape and Reel; RoHS: TRUE; Mounting Technology: Surface Mount; ComponentLink1Description: Manufacturer URL; ComponentLink1URL: http://www.linear.com/; ComponentLink2Description: Datasheet; ComponentLink2URL: http://cds.linear.com/docs/en/datasheet/2901fb.pdf; ComponentLink3Description: Package Specification; ComponentLink3URL: http://cds.linear.com/docs/en/packaging/05081641_B_GN16.pdf
footprint LT-GN-16_N (SOP, 16-Leads, Body 5x4mm, Pitch 0.635mm, IPC Medium Density)
footprint LT-GN-16_L (SOP, 16-Leads, Body 5x4mm, Pitch 0.635mm, IPC High Density)
footprint LT-GN-16_M (SOP, 16-Leads, Body 5x4mm, Pitch 0.635mm, IPC Low Density)
pins: 1 COMP3 (out) "Comparator Output 3. Nondelayed, active high logic output with weak pull-up to V2. Pulls high when V3 is above reset threshold. May be pulled greater than V2 using external pull-up.", 2 COMP1 (out) "Comparator Output 1. Nondelayed, active high logic output with weak pull-up to V2. Pulls high when V1 is above reset threshold. May be pulled greater than V2 using external pull-up.", 3 V3 (in) "Voltage Input 3. Select from 2.5V, 1.8V, 1.5V or ADJ. See Table 1 for details.", 4 V1 (in) "Voltage Input 1. Select from 5V or 3.3V. See Table 1 for details. The greater of (V1, V2) is also VCC for the device. Bypass this pin to ground with a 0.1uF (or greater) capacitor.", 5 CRT (in) "Reset Delay Time Programming Pin. Attach an external capacitor (CRT) to GND to set a reset delay time of 4.6ms/nF. Leaving the pin open generates a minimum delay of approximately 50us. A 47nF capacitor will generate a 216ms (See Datasheet)", 6 ~{RST} (oc) "Reset Logic Output. Active low with weak pull-up to V2 (LTC2901-1/LTC2901-3) or active pull-up to V2 (LTC2901-2/LTC2901-4). Pulls low when any voltage input is below the reset threshold and held low for the programmed delay (See Datasheet)", 7 ~{WDO} (out) "LTC2901-1/LTC2901-2 Watchdog Output. Active low logic output with weak pull-up to V2. May be pulled greater than V2 using external pull-up. The watchdog output pulls low if the watchdog timer is allowed to time out and (See Datasheet)", 8 WDI (in) "Watchdog Input. A logic input whose rising or falling edge must occur on this pin (while R\S\T\ is high) within the selected watchdog time-out period, prohibiting a high-to-low transition on the W\D\O\ pin (LTC2901-1/ (See Datasheet)", 9 CWT (in) "Watchdog Time-Out Programming Pin. Attach a capacitor (CWT) between CWT and GND to set a watchdog time-out period of 20ms/nF. Leaving the pin open generates a minimum time-out of approximately 200us. A 47nF capacitor will (See Datasheet)", 10 GND (power) "Ground.", 11 VPG (in) "Voltage Threshold Combination Select Input. Connect to an external 1% resistive divider between VREF and GND to select 1 of 16 combinations of preset and/ or +/-adjustable voltage thresholds (see Table 1). Do not add (See Datasheet)", 12 VREF (out) "Buffered Reference Voltage. A 1.210V nominal reference used for programming voltage (VPG) and for the offset of negative adjustable applications. The buffered reference can source and sink up to 1mA. The reference can drive (See Datasheet)", 13 V4 (in) "Voltage Input 4. Select from 1.8V, 1.5V, ADJ or - ADJ. See Table 1 for details.", 14 V2 (in) "Voltage Input 2. Select from 3.3V, 3V or 2.5V. See Table 1 for details. The greater of (V1, V2) is also VCC for device. Bypass this pin to ground with a 0.1uF (or greater) capacitor. All logic outputs (COMP1, COMP2, COMP3, (See Datasheet)", 15 COMP4 (out) "Comparator Output 4. Nondelayed, active high logic output with weak pull-up to V2. Pulls high when V4 is above reset threshold. May be pulled greater than V2 using external pull-up.", 16 COMP2 (out) "Comparator Output 2. Nondelayed, active high logic output with weak pull-up to V2. Pulls high when V2 is above reset threshold. May be pulled greater than V2 using external pull-up."

## LTC2901-2CGN
designator U?
Programmable Quad Supply Monitor with Adjustable Reset and Watchdog Timers, 16-pin SOP (GN-16), 0 to 70 degC; Manufacturer: Linear Technology; PartNumber: LTC2901-2CGN; Number of Supplies(#): 4; DatasheetVersion: Rev. B; PackageVersion: Rev. B, 03/2012; PackageReference: GN-16; PackageDescription: 16-Pin Plastic SSOP, Body 4.9 x 3.9 mm, Pitch 0.635 mm; Supplier 1: Digi-Key; Supplier Part Number 1: LTC2901-2CGN-ND; RoHS: FALSE; Mounting Technology: Surface Mount; ComponentLink1Description: Manufacturer URL; ComponentLink1URL: http://www.linear.com/; ComponentLink2Description: Datasheet; ComponentLink2URL: http://cds.linear.com/docs/en/datasheet/2901fb.pdf; ComponentLink3Description: Package Specification; ComponentLink3URL: http://cds.linear.com/docs/en/packaging/05081641_B_GN16.pdf
footprint LT-GN-16_N (SOP, 16-Leads, Body 5x4mm, Pitch 0.635mm, IPC Medium Density)
footprint LT-GN-16_L (SOP, 16-Leads, Body 5x4mm, Pitch 0.635mm, IPC High Density)
footprint LT-GN-16_M (SOP, 16-Leads, Body 5x4mm, Pitch 0.635mm, IPC Low Density)
pins: 1 COMP3 (out) "Comparator Output 3. Nondelayed, active high logic output with weak pull-up to V2. Pulls high when V3 is above reset threshold. May be pulled greater than V2 using external pull-up.", 2 COMP1 (out) "Comparator Output 1. Nondelayed, active high logic output with weak pull-up to V2. Pulls high when V1 is above reset threshold. May be pulled greater than V2 using external pull-up.", 3 V3 (in) "Voltage Input 3. Select from 2.5V, 1.8V, 1.5V or ADJ. See Table 1 for details.", 4 V1 (in) "Voltage Input 1. Select from 5V or 3.3V. See Table 1 for details. The greater of (V1, V2) is also VCC for the device. Bypass this pin to ground with a 0.1uF (or greater) capacitor.", 5 CRT (in) "Reset Delay Time Programming Pin. Attach an external capacitor (CRT) to GND to set a reset delay time of 4.6ms/nF. Leaving the pin open generates a minimum delay of approximately 50us. A 47nF capacitor will generate a 216ms (See Datasheet)", 6 ~{RST} (out) "Reset Logic Output. Active low with weak pull-up to V2 (LTC2901-1/LTC2901-3) or active pull-up to V2 (LTC2901-2/LTC2901-4). Pulls low when any voltage input is below the reset threshold and held low for the programmed delay (See Datasheet)", 7 ~{WDO} (out) "LTC2901-1/LTC2901-2 Watchdog Output. Active low logic output with weak pull-up to V2. May be pulled greater than V2 using external pull-up. The watchdog output pulls low if the watchdog timer is allowed to time out and (See Datasheet)", 8 WDI (in) "Watchdog Input. A logic input whose rising or falling edge must occur on this pin (while R\S\T\ is high) within the selected watchdog time-out period, prohibiting a high-to-low transition on the W\D\O\ pin (LTC2901-1/ (See Datasheet)", 9 CWT (in) "Watchdog Time-Out Programming Pin. Attach a capacitor (CWT) between CWT and GND to set a watchdog time-out period of 20ms/nF. Leaving the pin open generates a minimum time-out of approximately 200us. A 47nF capacitor will (See Datasheet)", 10 GND (power) "Ground.", 11 VPG (in) "Voltage Threshold Combination Select Input. Connect to an external 1% resistive divider between VREF and GND to select 1 of 16 combinations of preset and/ or +/-adjustable voltage thresholds (see Table 1). Do not add (See Datasheet)", 12 VREF (out) "Buffered Reference Voltage. A 1.210V nominal reference used for programming voltage (VPG) and for the offset of negative adjustable applications. The buffered reference can source and sink up to 1mA. The reference can drive (See Datasheet)", 13 V4 (in) "Voltage Input 4. Select from 1.8V, 1.5V, ADJ or - ADJ. See Table 1 for details.", 14 V2 (in) "Voltage Input 2. Select from 3.3V, 3V or 2.5V. See Table 1 for details. The greater of (V1, V2) is also VCC for device. Bypass this pin to ground with a 0.1uF (or greater) capacitor. All logic outputs (COMP1, COMP2, COMP3, (See Datasheet)", 15 COMP4 (out) "Comparator Output 4. Nondelayed, active high logic output with weak pull-up to V2. Pulls high when V4 is above reset threshold. May be pulled greater than V2 using external pull-up.", 16 COMP2 (out) "Comparator Output 2. Nondelayed, active high logic output with weak pull-up to V2. Pulls high when V2 is above reset threshold. May be pulled greater than V2 using external pull-up."